# EAGLE library part MTINY_ESP32_WROOM (library kxnStandard_frame_mutilsensor)
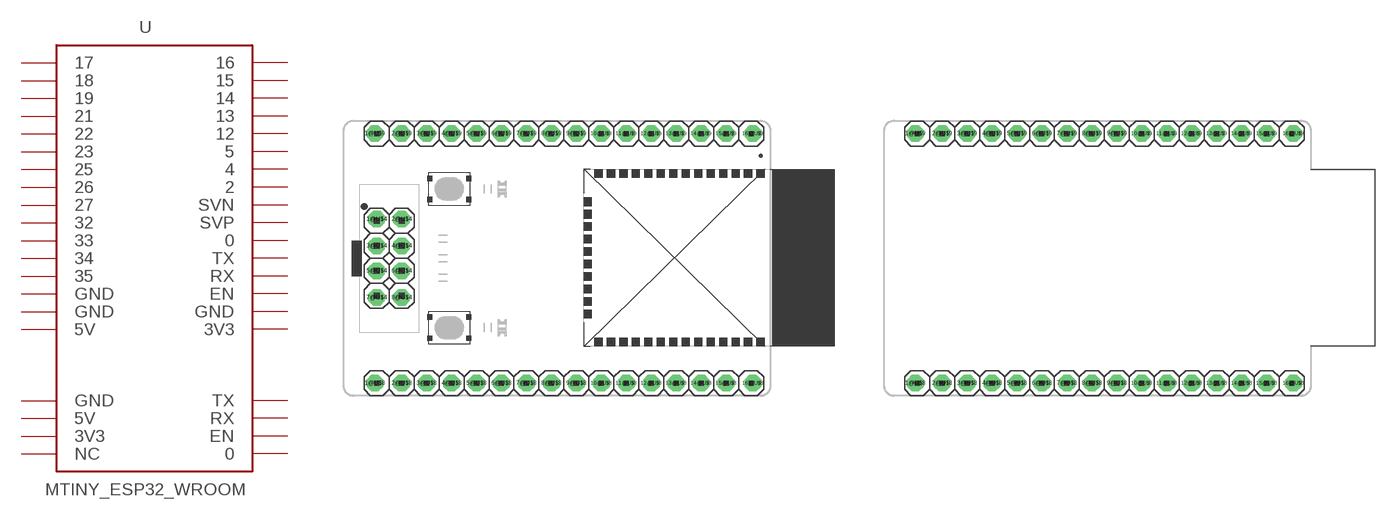
[diagram p2: symbol with the pads of MTINY_ESP32_WROOM_1.2_FRAME; footprints MTINY_ESP32_WROOM_1.2_FRAME, MTINY_ESP32_WROOM_1.2_FRAME_2SIDE]

Designator prefix -

## MTINY_ESP32_WROOM_FULL  [MTINY_ESP32_WROOM_1.2_FRAME]
1@U$4  M_P$1
1@U$8  R_P$1
1@U$9  L_P$1
2@U$4  M_P$2
2@U$8  R_P$2
2@U$9  L_P$2
3@U$4  M_P$3
3@U$8  R_P$3
3@U$9  L_P$3
4@U$4  M_P$4
4@U$8  R_P$4
4@U$9  L_P$4
5@U$4  M_P$5
5@U$8  R_P$5
5@U$9  L_P$5
6@U$4  M_P$6
6@U$8  R_P$6
6@U$9  L_P$6
7@U$4  M_P$7  nc
7@U$8  R_P$7
7@U$9  L_P$7
8@U$4  M_P$8
8@U$8  R_P$8
8@U$9  L_P$8
9@U$8  R_P$9
9@U$9  L_P$9
10@U$8  R_P$10
10@U$9  L_P$10
11@U$8  R_P$11
11@U$9  L_P$11
12@U$8  R_P$12
12@U$9  L_P$12
13@U$8  R_P$13
13@U$9  L_P$13
14@U$8  R_P$14
14@U$9  L_P$14
15@U$8  R_P$15
15@U$9  L_P$15
16@U$8  R_P$16
16@U$9  L_P$16

## MTINY_ESP32_WROOM_ONLY_2SIDE  [MTINY_ESP32_WROOM_1.2_FRAME_2SIDE]
Pads as for MTINY_ESP32_WROOM_1.2_FRAME

## MTINY_ESP32_WROOM_ONLY_2SIDE_FEMALE  [MTINY_ESP32_WROOM_1.2_FRAME_2SIDE_FEMALE]
Pads as for MTINY_ESP32_WROOM_1.2_FRAME

## Footprint MTINY_ESP32_WROOM_1.2_FRAME (pad centres in mm)
Package generated by make-group2pac.ulp from: D:/git/bitbucket/EagleBit/eaglepcb_eduseri/Hshop/Maker_Mini_PCB/Mtiny_ESP32/Mtiny_ESP32_WROOM/Mtiny_ESP32_WROOM_1.2/Mtiny_ESP32_WROOM_1.2.brd at: 7/12/2023 9:34:38 AM
drill 0.95 pad 1.676 octagon: 1@U$4 3.35,17.988; 2@U$4 5.89,17.988; 2@U$8 5.89,1.3; 2@U$9 5.89,26.7; 3@U$4 3.35,15.27; 3@U$8 8.43,1.3; 3@U$9 8.43,26.7; 4@U$4 5.89,15.27; 4@U$8 10.97,1.3; 4@U$9 10.97,26.7; 5@U$4 3.35,12.73; 5@U$8 13.51,1.3; 5@U$9 13.51,26.7; 6@U$4 5.89,12.73; 6@U$8 16.05,1.3; 6@U$9 16.05,26.7; 7@U$4 3.35,10.012; 7@U$8 18.59,1.3; 7@U$9 18.59,26.7; 8@U$4 5.89,10.012; 8@U$8 21.13,1.3; 8@U$9 21.13,26.7; 9@U$8 23.67,1.3; 9@U$9 23.67,26.7; 10@U$8 26.21,1.3; 10@U$9 26.21,26.7; 11@U$8 28.75,1.3; 11@U$9 28.75,26.7; 12@U$8 31.29,1.3; 12@U$9 31.29,26.7; 13@U$8 33.83,1.3; 13@U$9 33.83,26.7; 14@U$8 36.37,1.3; 14@U$9 36.37,26.7; 15@U$8 38.91,1.3; 15@U$9 38.91,26.7; 16@U$8 41.63,1.3; 16@U$9 41.63,26.7
drill 0.9 pad 1.676 octagon: 1@U$8 3.17,1.3; 1@U$9 3.17,26.7

## Footprint MTINY_ESP32_WROOM_1.2_FRAME_2SIDE (pad centres in mm)
drill 0.01 pad 0.1 octagon: 1@U$4 5.89,1.3; 2@U$4 13.51,1.3; 3@U$4 3.17,26.7; 4@U$4 10.97,1.3; 5@U$4 3.17,1.3; 6@U$4 8.43,1.3; 7@U$4 18.59,1.3; 8@U$4 16.05,1.3
drill 0.9 pad 1.676 octagon: 1@U$8 3.17,1.3; 1@U$9 3.17,26.7
drill 0.95 pad 1.676 octagon: 2@U$8 5.89,1.3; 2@U$9 5.89,26.7; 3@U$8 8.43,1.3; 3@U$9 8.43,26.7; 4@U$8 10.97,1.3; 4@U$9 10.97,26.7; 5@U$8 13.51,1.3; 5@U$9 13.51,26.7; 6@U$8 16.05,1.3; 6@U$9 16.05,26.7; 7@U$8 18.59,1.3; 7@U$9 18.59,26.7; 8@U$8 21.13,1.3; 8@U$9 21.13,26.7; 9@U$8 23.67,1.3; 9@U$9 23.67,26.7; 10@U$8 26.21,1.3; 10@U$9 26.21,26.7; 11@U$8 28.75,1.3; 11@U$9 28.75,26.7; 12@U$8 31.29,1.3; 12@U$9 31.29,26.7; 13@U$8 33.83,1.3; 13@U$9 33.83,26.7; 14@U$8 36.37,1.3; 14@U$9 36.37,26.7; 15@U$8 38.91,1.3; 15@U$9 38.91,26.7; 16@U$8 41.63,1.3; 16@U$9 41.63,26.7

## Footprint MTINY_ESP32_WROOM_1.2_FRAME_2SIDE_FEMALE (pad centres in mm)
drill 0.01 pad 0.1 octagon: 1@U$4 5.89,1.3; 2@U$4 13.51,1.3; 3@U$4 3.17,26.7; 4@U$4 10.97,1.3; 5@U$4 3.17,1.3; 6@U$4 8.43,1.3; 7@U$4 18.59,1.3; 8@U$4 16.05,1.3
drill 0.55 pad 1.676 octagon: 1@U$8 3.17,1.3; 1@U$9 3.17,26.7; 16@U$8 41.63,1.3; 16@U$9 41.63,26.7
drill 0.65 pad 1.676 octagon: 2@U$8 5.89,1.3; 2@U$9 5.89,26.7; 15@U$8 38.91,1.3; 15@U$9 38.91,26.7
drill 0.95 pad 1.676 octagon: 3@U$8 8.43,1.3; 3@U$9 8.43,26.7; 4@U$8 10.97,1.3; 4@U$9 10.97,26.7; 5@U$8 13.51,1.3; 5@U$9 13.51,26.7; 6@U$8 16.05,1.3; 6@U$9 16.05,26.7; 7@U$8 18.59,1.3; 7@U$9 18.59,26.7; 8@U$8 21.13,1.3; 8@U$9 21.13,26.7; 9@U$8 23.67,1.3; 9@U$9 23.67,26.7; 10@U$8 26.21,1.3; 10@U$9 26.21,26.7; 11@U$8 28.75,1.3; 11@U$9 28.75,26.7; 12@U$8 31.29,1.3; 12@U$9 31.29,26.7; 13@U$8 33.83,1.3; 13@U$9 33.83,26.7; 14@U$8 36.37,1.3; 14@U$9 36.37,26.7